# Altium footprint library PcbLibPower.PcbLib: 2 footprints
Each footprint in its own frame and in the unit in brackets; x right, y up, seen from the top. Pads: shape width x height; smd on the part's side, far side on the other; paste and mask are expansions set on the pad; w line width, h text height; cw(c..) or ccw(c..) is an arc to the next point about the centre after c.
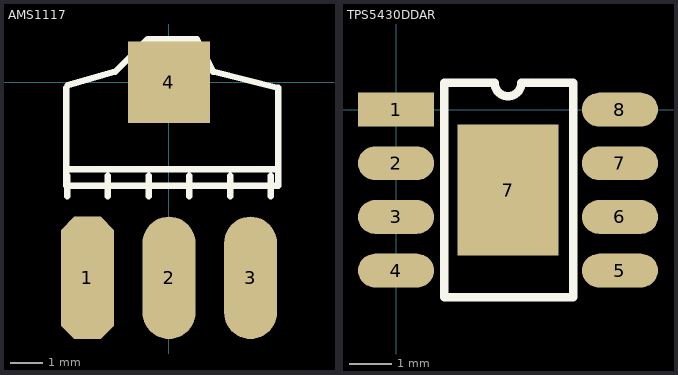
[diagram p0: the footprints below, top view; thin cyan lines are the x and y axes]

## AMS1117 [mil]
pads (4):
  oct 65x150 smd: 1(-100,-240)
  oval 65x150 smd: 2(0,-240) 3(100,-240)
  rect 100x100 smd: 4(0,0)
Top Overlay:
  lines w7.87: -126,-7 -126,-107 ; -125,-140 -125,-115 ; -124.33,-3.67 -66,13 -26,53 34,53 54,13 134,-7 134,-127 ; -75,-140 -75,-115 ; -25,-140 -25,-115 ; 25,-140 25,-115 ; 75,-140 75,-115 ; 125,-140 125,-115 ; -126,-107 -126,-127 134,-127 ; -126,-107 134,-107 134,-127
3D body "User Library-AMS1117 14.step": height 72.83, standoff -0.39, extent -125.91,-242.78 130,32.78

## TPS5430DDAR [mm]
pads (9):
  rect 1.8x0.8 smd: 1(0,0)
  oval 1.8x0.8 smd: 2(0,-1.27) 3(0,-2.54) 4(0,-3.81) 5(5.3,-3.81) 6(5.3,-2.54) 7(5.3,-1.27) 8(5.3,0)
  rect 2.4x3.1 smd: 7(2.65,-1.905)
Top Overlay:
  lines w0.2: 1.143,-4.445 4.191,-4.445 4.191,0.635 2.967,0.635 cw(c2.65,0.635) 2.332,0.635 1.143,0.635 1.143,-4.445
3D body "User Library-TPS54360DDA.STEP": height 1.56, standoff -0.03, extent -0.45,-4.405 5.75,0.595